# EAGLE library part NLSX3018 (library sjg-level)
NLSX3018 8-bit 100 Mb/sec bi-directional level translator in SO-20W package
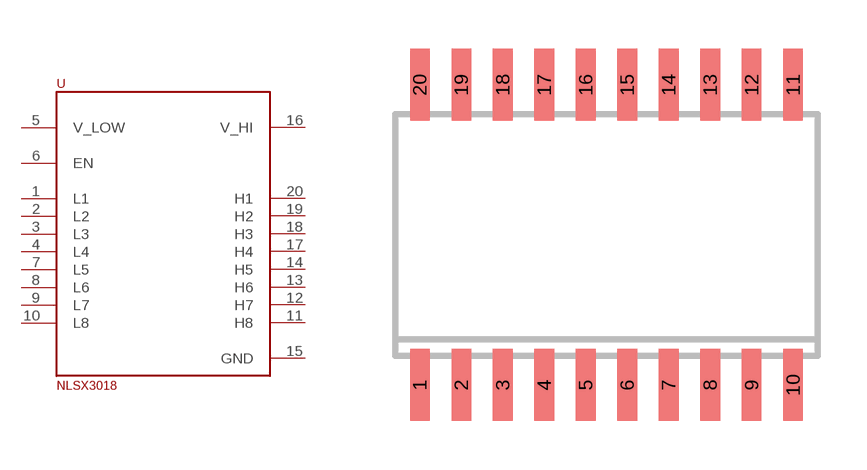
[diagram p0: symbol with the pads of SO20W; footprint SO20W]

Designator prefix -

## NLSX3018  [SO20W]
1  L1
2  L2
3  L3
4  L4
5  V_LOW
6  EN
7  L5
8  L6
9  L7
10  L8
11  H8
12  H7
13  H6
14  H5
15  GND
16  V_HI
17  H4
18  H3
19  H2
20  H1

## Footprint SO20W (pad centres in mm)
SMALL OUTLINE INTEGRATED CIRCUIT wide body 7.5 mm/JEDEC MS-013AC
smd 0.6 x 2.2: 1 -5.715,-4.6; 2 -4.445,-4.6; 3 -3.175,-4.6; 4 -1.905,-4.6; 5 -0.635,-4.6; 6 0.635,-4.6; 7 1.905,-4.6; 8 3.175,-4.6; 9 4.445,-4.6; 10 5.715,-4.6; 11 5.715,4.6; 12 4.445,4.6; 13 3.175,4.6; 14 1.905,4.6; 15 0.635,4.6; 16 -0.635,4.6; 17 -1.905,4.6; 18 -3.175,4.6; 19 -4.445,4.6; 20 -5.715,4.6